# EAGLE library part MTA09-156 (library con-amp)
AMP CONNECTOR
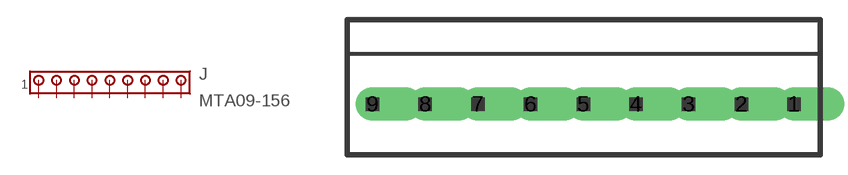
[diagram p114: symbol with the pads of 1X9MTA; footprint 1X9MTA]

Designator prefix J

## MTA09-156  [1X9MTA]
1  1  pas
2  2  pas
3  3  pas
4  4  pas
5  5  pas
6  6  pas
7  7  pas
8  8  pas
9  9  pas

## Footprint 1X9MTA (pad centres in mm)
AMP CONNECTOR
drill 1.676 offset: 1 15.85,0; 2 11.887,0; 3 7.925,0; 4 3.962,0; 5 0,0; 6 -3.962,0; 7 -7.925,0; 8 -11.887,0; 9 -15.85,0